# EAGLE library part AD9245 (library IC)
Analog Devices AD9245 A/D converter in a PFCSP32 (CP32-1) package
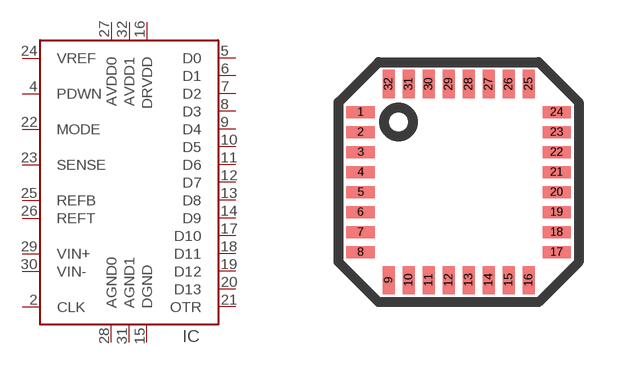
[diagram p62: symbol with the pads of LFCSP32; footprint LFCSP32]

Designator prefix IC

## AD9245  [LFCSP32]
2  CLK
4  PDWN
5  D0
6  D1
7  D2
8  D3
9  D4
10  D5
11  D6
12  D7
13  D8
14  D9
15  DGND  pwr
16  DRVDD  pwr
17  D10
18  D11
19  D12
20  D13
21  OTR
22  MODE
23  SENSE
24  VREF
25  REFB
26  REFT
27  AVDD0  pwr
28  AGND0  pwr
29  VIN+  in
30  VIN-  in
31  AGND1  pwr
32  AVDD1  pwr

## Footprint LFCSP32 (pad centres in mm)
smd 0.7 x 0.3: 1 -2.45,1.75; 2 -2.45,1.25; 3 -2.45,0.75; 4 -2.45,0.25; 5 -2.45,-0.25; 6 -2.45,-0.75; 7 -2.45,-1.25; 8 -2.45,-1.75; 17 2.45,-1.75; 18 2.45,-1.25; 19 2.45,-0.75; 20 2.45,-0.25; 21 2.45,0.25; 22 2.45,0.75; 23 2.45,1.25; 24 2.45,1.75
smd 0.3 x 0.7: 9 -1.75,-2.45; 10 -1.25,-2.45; 11 -0.75,-2.45; 12 -0.25,-2.45; 13 0.25,-2.45; 14 0.75,-2.45; 15 1.25,-2.45; 16 1.75,-2.45; 25 1.75,2.45; 26 1.25,2.45; 27 0.75,2.45; 28 0.25,2.45; 29 -0.25,2.45; 30 -0.75,2.45; 31 -1.25,2.45; 32 -1.75,2.45